# EAGLE library part Z8002V (library oldchips)
16-bit CPU Zilog
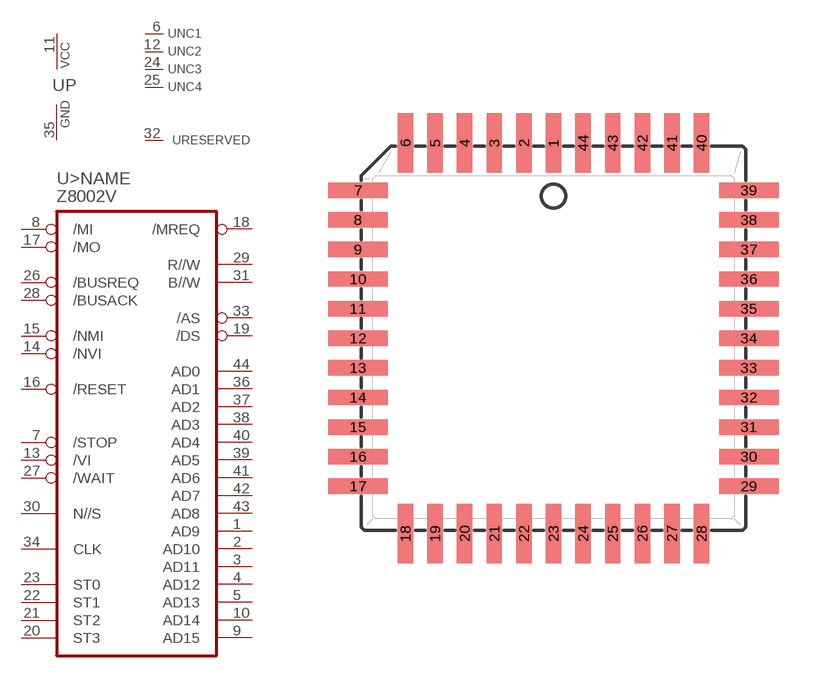
[diagram p18: symbol with the pads of PLCC44; footprint PLCC44]

Designator prefix U; gates >NAME=Z8002 P=PWRN NC1=NC NC2=NC NC3=NC NC4=NC RESERVED=NU

## Z8002V  [PLCC44]
1  >NAME:AD9
2  >NAME:AD10
3  >NAME:AD11
4  >NAME:AD12
5  >NAME:AD13
6  NC1:NC  nc
7  >NAME:/STOP  in
8  >NAME:/MI  in
9  >NAME:AD15
10  >NAME:AD14
11  P:VCC  pwr
12  NC2:NC  nc
13  >NAME:/VI  in
14  >NAME:/NVI  in
15  >NAME:/NMI  in
16  >NAME:/RESET  in
17  >NAME:/MO  out
18  >NAME:/MREQ  out
19  >NAME:/DS  out
20  >NAME:ST3  out
21  >NAME:ST2  out
22  >NAME:ST1  out
23  >NAME:ST0  out
24  NC3:NC  nc
25  NC4:NC  nc
26  >NAME:/BUSREQ  in
27  >NAME:/WAIT  in
28  >NAME:/BUSACK  out
29  >NAME:R//W  out
30  >NAME:N//S  out
31  >NAME:B//W  out
32  RESERVED:IC-NU  nc
33  >NAME:/AS  out
34  >NAME:CLK  in
35  P:GND  pwr
36  >NAME:AD1
37  >NAME:AD2
38  >NAME:AD3
39  >NAME:AD5
40  >NAME:AD4
41  >NAME:AD6
42  >NAME:AD7
43  >NAME:AD8
44  >NAME:AD0

## Footprint PLCC44 (pad centres in mm)
Plastic Leaded Carrier Package
smd 0.66 x 2.54: 1 0,8.382; 2 -1.27,8.382; 3 -2.54,8.382; 4 -3.81,8.382; 5 -5.08,8.382; 6 -6.35,8.382; 18 -6.35,-8.382; 19 -5.08,-8.382; 20 -3.81,-8.382; 21 -2.54,-8.382; 22 -1.27,-8.382; 23 0,-8.382; 24 1.27,-8.382; 25 2.54,-8.382; 26 3.81,-8.382; 27 5.08,-8.382; 28 6.35,-8.382; 40 6.35,8.382; 41 5.08,8.382; 42 3.81,8.382; 43 2.54,8.382; 44 1.27,8.382
smd 2.54 x 0.66: 7 -8.382,6.35; 8 -8.382,5.08; 9 -8.382,3.81; 10 -8.382,2.54; 11 -8.382,1.27; 12 -8.382,0; 13 -8.382,-1.27; 14 -8.382,-2.54; 15 -8.382,-3.81; 16 -8.382,-5.08; 17 -8.382,-6.35; 29 8.382,-6.35; 30 8.382,-5.08; 31 8.382,-3.81; 32 8.382,-2.54; 33 8.382,-1.27; 34 8.382,0; 35 8.382,1.27; 36 8.382,2.54; 37 8.382,3.81; 38 8.382,5.08; 39 8.382,6.35